# EAGLE library part SJ-435107RS (library CUI inc)
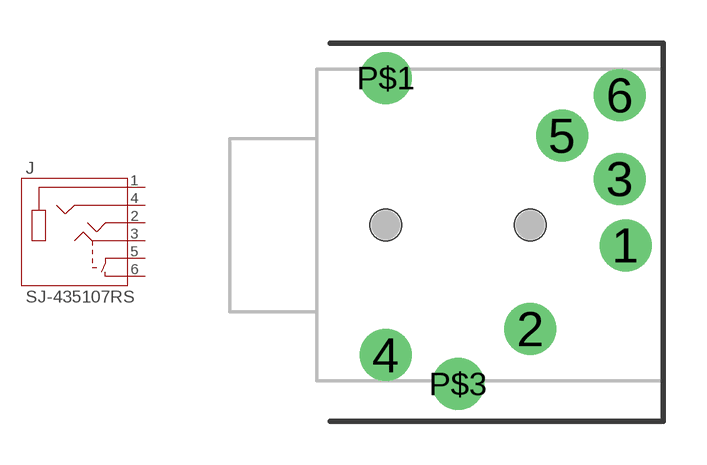
[diagram p0: symbol with the pads of SJ-435107RS; footprint SJ-435107RS]

Designator prefix J

## SJ-435107RS  [SJ-435107RS]
1  SLEEVE
2  TIP
3  RING1
4  RING2
5  5
6  6

## Footprint SJ-435107RS (pad centres in mm)
drill 1.2: 1 10.7,-0.7; 2 7.4,-3.6; 3 10.5,1.6; 4 2.4,-4.5; 5 8.5,3.1; 6 10.5,4.5; P$1 2.4,5.1; P$3 4.9,-5.5
hole 1.1 at 2.4,0
hole 1.1 at 7.4,0